# Altium integrated library Linear Technology Power Management LDO Linear Regulators.IntLib: 2339 symbols (part 128 of 131)
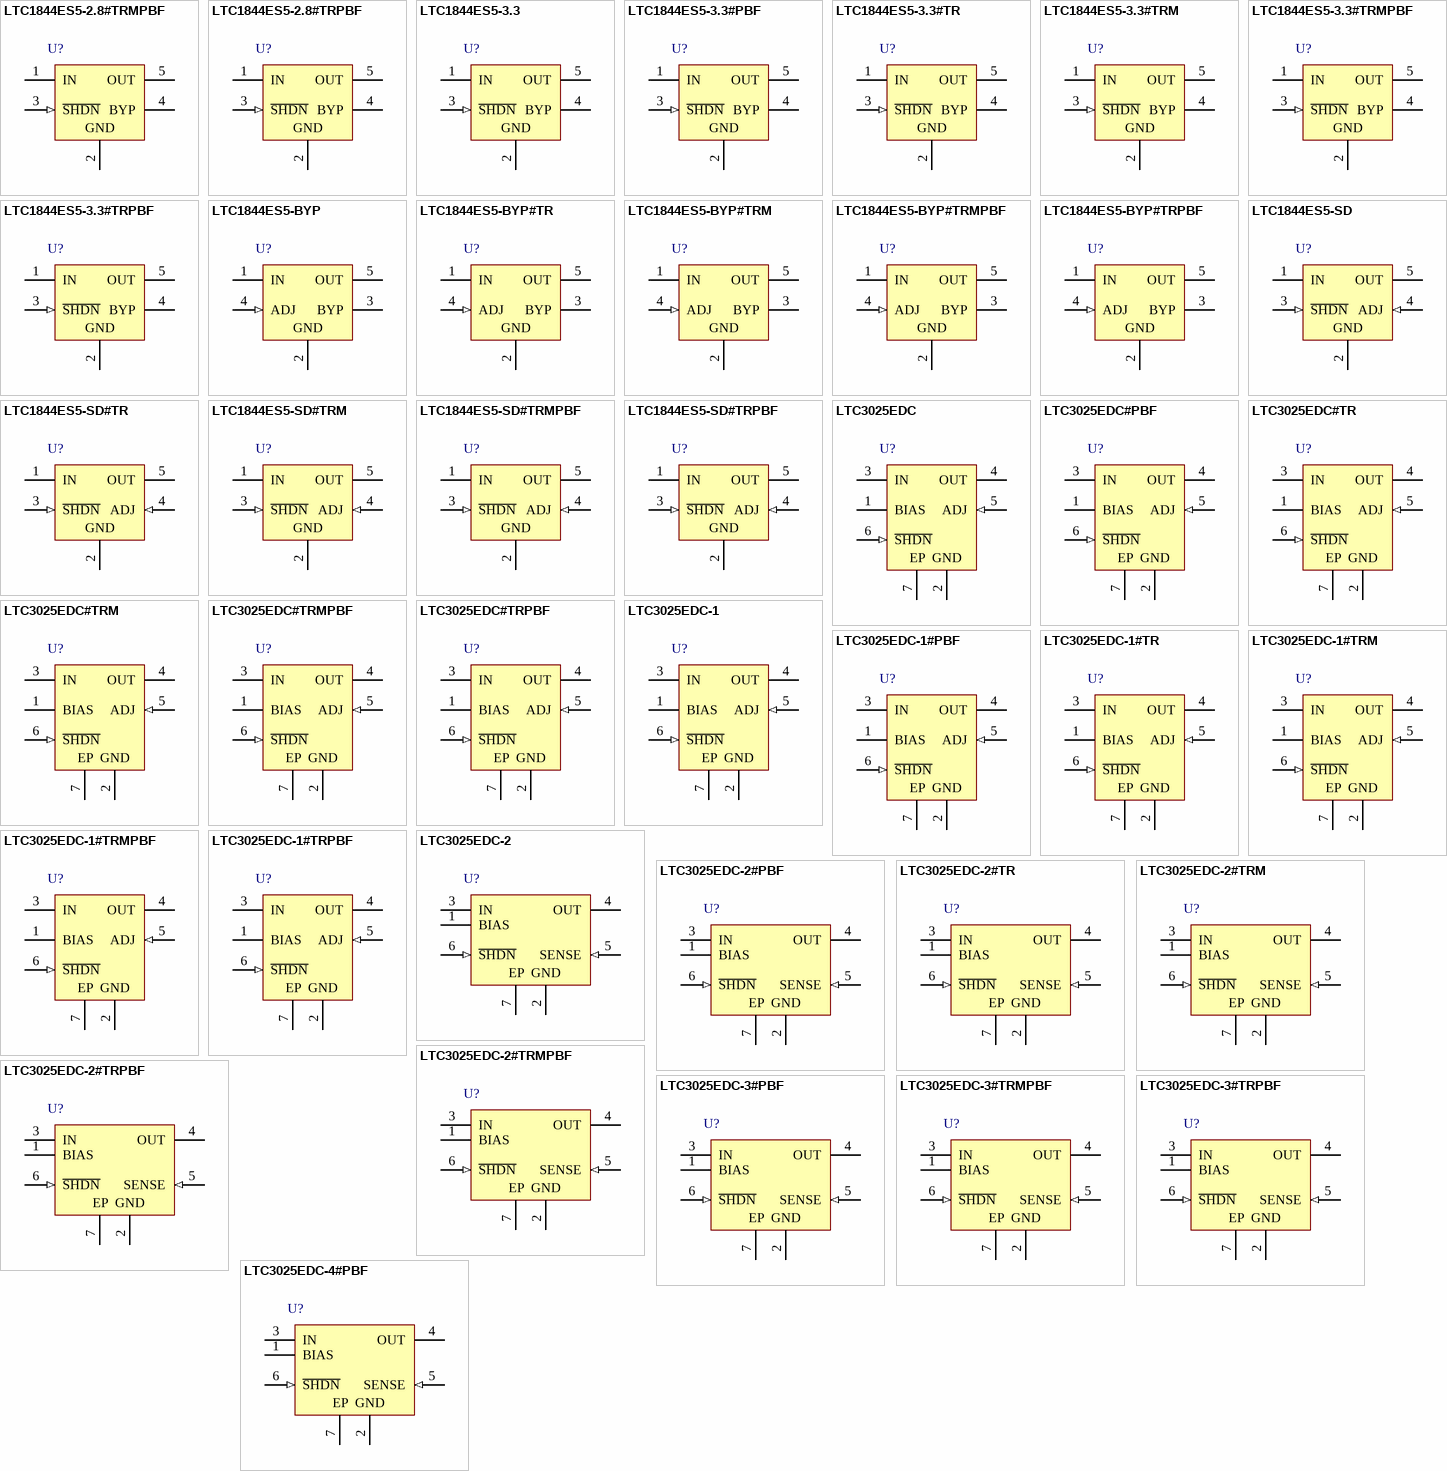
[diagram p196: symbols LTC1844ES5-2.8#TRMPBF to LTC3025EDC-4#PBF]

## LTC3025EDC-3#PBF
designator U?
500 mA Micropower VLDO Linear Regulator, 1.7 to 5.5 V Vin, 1.5 V Vout, 6-pin SON (DC6-6), -40 to 125 degC, Pb-Free; Manufacturer: Linear Technology; PartNumber: LTC3025EDC-3#PBF; Discrete Pass Element: no; Dropout Voltage(V): 0.085; Iout(mA): 500; Isupply(mA): 0.05; Noise(uV): 80; Number of Outputs: 1; Output Voltage: 1.5 V; Vin Max(V): 5.5; Vin Min(V): 1.7; DatasheetVersion: Rev. F; PackageVersion: Rev. B, 06/2010; PackageReference: DC6-6; PackageDescription: 6-Pin Plastic DFN, Body 2 x 2 mm, Pitch 0.5 mm; Supplier 1: Newark; Supplier Part Number 1: 78T3133; RoHS: TRUE; Shutdown Current(uA): 1; Mounting Technology: Surface Mount; Code_JEDEC: MO-229; ComponentLink1Description: Manufacturer URL; ComponentLink1URL: http://www.linear.com/; ComponentLink2Description: Datasheet; ComponentLink2URL: http://cds.linear.com/docs/en/datasheet/30251234ff.pdf; ComponentLink3Description: Package Specification; ComponentLink3URL: http://cds.linear.com/docs/en/packaging/DFN_6_05-08-1703.pdf
footprint LT-DC6-6_V (SON, 6-Leads, Body 2x2mm, Pitch 0.5mm, Thermal Pad 1.42x0.61mm)
pins: 1 BIAS (power) "BIAS Input Voltage. BIAS provides internal power for LTC3025-X circuitry. The BIAS pin should be locally bypassed to ground if the LTC3025-X is more than a few inches away from another source of bulk capacitance. In general, (See Datasheet)", 2 GND (power) "Ground. Connect to a ground plane.", 3 IN (power) "Input Supply Voltage. The output load current is supplied directly from IN. The IN pin should be locally bypassed to ground if the LTC3025-X is more than a few inches away from another source of bulk capacitance. In general, (See Datasheet)", 4 OUT (power) "Regulated Output Voltage. The OUT pin supplies power to the load. A minimum ceramic output capacitor of at least 1uF is required to ensure stability. Larger output capacitors may be required for applications with large (See Datasheet)", 5 SENSE (in) "Output Sense. The sense is the input to the resistor divider driving the error amplifier. Optimum regulation will be obtained at the point where SENSE is connected to OUT. The SENSE pin bias current is 10uA at the nominal (See Datasheet)", 6 ~{SHDN} (in) "Shutdown Input, Active Low. This pin is used to put the LTC3025-X into shutdown. The S\H\D\N\ pin current is typically less than 10nA. The S\H\D\N\ pin cannot be left floating and must be tied to a valid logic level (such as (See Datasheet)", 7 EP (power) "Ground and Heat Sink. Must be soldered to PCB ground plane or large pad for optimal thermal performance."

## LTC3025EDC-3#TRMPBF
designator U?
500 mA Micropower VLDO Linear Regulator, 1.7 to 5.5 V Vin, 1.5 V Vout, 6-pin SON (DC6-6), -40 to 125 degC, Pb-Free, Mini Tape and Reel; Manufacturer: Linear Technology; PartNumber: LTC3025EDC-3#TRMPBF; Discrete Pass Element: no; Dropout Voltage(V): 0.085; Iout(mA): 500; Isupply(mA): 0.05; Noise(uV): 80; Number of Outputs: 1; Output Voltage: 1.5 V; Vin Max(V): 5.5; Vin Min(V): 1.7; DatasheetVersion: Rev. F; PackageVersion: Rev. B, 06/2010; PackageReference: DC6-6; PackageDescription: 6-Pin Plastic DFN, Body 2 x 2 mm, Pitch 0.5 mm; Supplier 1: Digi-Key; Supplier Part Number 1: LTC3025EDC-3#TRMPBF-ND; Supplier 2: Newark; Supplier Part Number 2: 19P9323; Packing: Mini Tape and Reel; RoHS: TRUE; Shutdown Current(uA): 1; Mounting Technology: Surface Mount; Code_JEDEC: MO-229; ComponentLink1Description: Manufacturer URL; ComponentLink1URL: http://www.linear.com/; ComponentLink2Description: Datasheet; ComponentLink2URL: http://cds.linear.com/docs/en/datasheet/30251234ff.pdf; ComponentLink3Description: Package Specification; ComponentLink3URL: http://cds.linear.com/docs/en/packaging/DFN_6_05-08-1703.pdf
footprint LT-DC6-6_V (SON, 6-Leads, Body 2x2mm, Pitch 0.5mm, Thermal Pad 1.42x0.61mm)
pins: 1 BIAS (power) "BIAS Input Voltage. BIAS provides internal power for LTC3025-X circuitry. The BIAS pin should be locally bypassed to ground if the LTC3025-X is more than a few inches away from another source of bulk capacitance. In general, (See Datasheet)", 2 GND (power) "Ground. Connect to a ground plane.", 3 IN (power) "Input Supply Voltage. The output load current is supplied directly from IN. The IN pin should be locally bypassed to ground if the LTC3025-X is more than a few inches away from another source of bulk capacitance. In general, (See Datasheet)", 4 OUT (power) "Regulated Output Voltage. The OUT pin supplies power to the load. A minimum ceramic output capacitor of at least 1uF is required to ensure stability. Larger output capacitors may be required for applications with large (See Datasheet)", 5 SENSE (in) "Output Sense. The sense is the input to the resistor divider driving the error amplifier. Optimum regulation will be obtained at the point where SENSE is connected to OUT. The SENSE pin bias current is 10uA at the nominal (See Datasheet)", 6 ~{SHDN} (in) "Shutdown Input, Active Low. This pin is used to put the LTC3025-X into shutdown. The S\H\D\N\ pin current is typically less than 10nA. The S\H\D\N\ pin cannot be left floating and must be tied to a valid logic level (such as (See Datasheet)", 7 EP (power) "Ground and Heat Sink. Must be soldered to PCB ground plane or large pad for optimal thermal performance."

## LTC3025EDC-3#TRPBF
designator U?
500 mA Micropower VLDO Linear Regulator, 1.7 to 5.5 V Vin, 1.5 V Vout, 6-pin SON (DC6-6), -40 to 125 degC, Pb-Free, Tape and Reel; Manufacturer: Linear Technology; PartNumber: LTC3025EDC-3#TRPBF; Discrete Pass Element: no; Dropout Voltage(V): 0.085; Iout(mA): 500; Isupply(mA): 0.05; Noise(uV): 80; Number of Outputs: 1; Output Voltage: 1.5 V; Vin Max(V): 5.5; Vin Min(V): 1.7; DatasheetVersion: Rev. F; PackageVersion: Rev. B, 06/2010; PackageReference: DC6-6; PackageDescription: 6-Pin Plastic DFN, Body 2 x 2 mm, Pitch 0.5 mm; Supplier 1: Digi-Key; Supplier Part Number 1: LTC3025EDC-3#TRPBF-ND; Packing: Tape and Reel; RoHS: TRUE; Shutdown Current(uA): 1; Mounting Technology: Surface Mount; Code_JEDEC: MO-229; ComponentLink1Description: Manufacturer URL; ComponentLink1URL: http://www.linear.com/; ComponentLink2Description: Datasheet; ComponentLink2URL: http://cds.linear.com/docs/en/datasheet/30251234ff.pdf; ComponentLink3Description: Package Specification; ComponentLink3URL: http://cds.linear.com/docs/en/packaging/DFN_6_05-08-1703.pdf
footprint LT-DC6-6_V (SON, 6-Leads, Body 2x2mm, Pitch 0.5mm, Thermal Pad 1.42x0.61mm)
pins: 1 BIAS (power) "BIAS Input Voltage. BIAS provides internal power for LTC3025-X circuitry. The BIAS pin should be locally bypassed to ground if the LTC3025-X is more than a few inches away from another source of bulk capacitance. In general, (See Datasheet)", 2 GND (power) "Ground. Connect to a ground plane.", 3 IN (power) "Input Supply Voltage. The output load current is supplied directly from IN. The IN pin should be locally bypassed to ground if the LTC3025-X is more than a few inches away from another source of bulk capacitance. In general, (See Datasheet)", 4 OUT (power) "Regulated Output Voltage. The OUT pin supplies power to the load. A minimum ceramic output capacitor of at least 1uF is required to ensure stability. Larger output capacitors may be required for applications with large (See Datasheet)", 5 SENSE (in) "Output Sense. The sense is the input to the resistor divider driving the error amplifier. Optimum regulation will be obtained at the point where SENSE is connected to OUT. The SENSE pin bias current is 10uA at the nominal (See Datasheet)", 6 ~{SHDN} (in) "Shutdown Input, Active Low. This pin is used to put the LTC3025-X into shutdown. The S\H\D\N\ pin current is typically less than 10nA. The S\H\D\N\ pin cannot be left floating and must be tied to a valid logic level (such as (See Datasheet)", 7 EP (power) "Ground and Heat Sink. Must be soldered to PCB ground plane or large pad for optimal thermal performance."

## LTC3025EDC-4#PBF
designator U?
500 mA Micropower VLDO Linear Regulator, 2 to 5.5 V Vin, 1.8 V Vout, 6-pin SON (DC6-6), -40 to 125 degC, Pb-Free; Manufacturer: Linear Technology; PartNumber: LTC3025EDC-4#PBF; Discrete Pass Element: no; Dropout Voltage(V): 0.085; Iout(mA): 500; Isupply(mA): 0.05; Noise(uV): 80; Number of Outputs: 1; Output Voltage: 1.8 V; Vin Max(V): 5.5; Vin Min(V): 2; DatasheetVersion: Rev. F; PackageVersion: Rev. B, 06/2010; PackageReference: DC6-6; PackageDescription: 6-Pin Plastic DFN, Body 2 x 2 mm, Pitch 0.5 mm; Supplier 1: Newark; Supplier Part Number 1: 78T3134; RoHS: TRUE; Shutdown Current(uA): 1; Mounting Technology: Surface Mount; Code_JEDEC: MO-229; ComponentLink1Description: Manufacturer URL; ComponentLink1URL: http://www.linear.com/; ComponentLink2Description: Datasheet; ComponentLink2URL: http://cds.linear.com/docs/en/datasheet/30251234ff.pdf; ComponentLink3Description: Package Specification; ComponentLink3URL: http://cds.linear.com/docs/en/packaging/DFN_6_05-08-1703.pdf
footprint LT-DC6-6_V (SON, 6-Leads, Body 2x2mm, Pitch 0.5mm, Thermal Pad 1.42x0.61mm)
pins: 1 BIAS (power) "BIAS Input Voltage. BIAS provides internal power for LTC3025-X circuitry. The BIAS pin should be locally bypassed to ground if the LTC3025-X is more than a few inches away from another source of bulk capacitance. In general, (See Datasheet)", 2 GND (power) "Ground. Connect to a ground plane.", 3 IN (power) "Input Supply Voltage. The output load current is supplied directly from IN. The IN pin should be locally bypassed to ground if the LTC3025-X is more than a few inches away from another source of bulk capacitance. In general, (See Datasheet)", 4 OUT (power) "Regulated Output Voltage. The OUT pin supplies power to the load. A minimum ceramic output capacitor of at least 1uF is required to ensure stability. Larger output capacitors may be required for applications with large (See Datasheet)", 5 SENSE (in) "Output Sense. The sense is the input to the resistor divider driving the error amplifier. Optimum regulation will be obtained at the point where SENSE is connected to OUT. The SENSE pin bias current is 10uA at the nominal (See Datasheet)", 6 ~{SHDN} (in) "Shutdown Input, Active Low. This pin is used to put the LTC3025-X into shutdown. The S\H\D\N\ pin current is typically less than 10nA. The S\H\D\N\ pin cannot be left floating and must be tied to a valid logic level (such as (See Datasheet)", 7 EP (power) "Ground and Heat Sink. Must be soldered to PCB ground plane or large pad for optimal thermal performance."

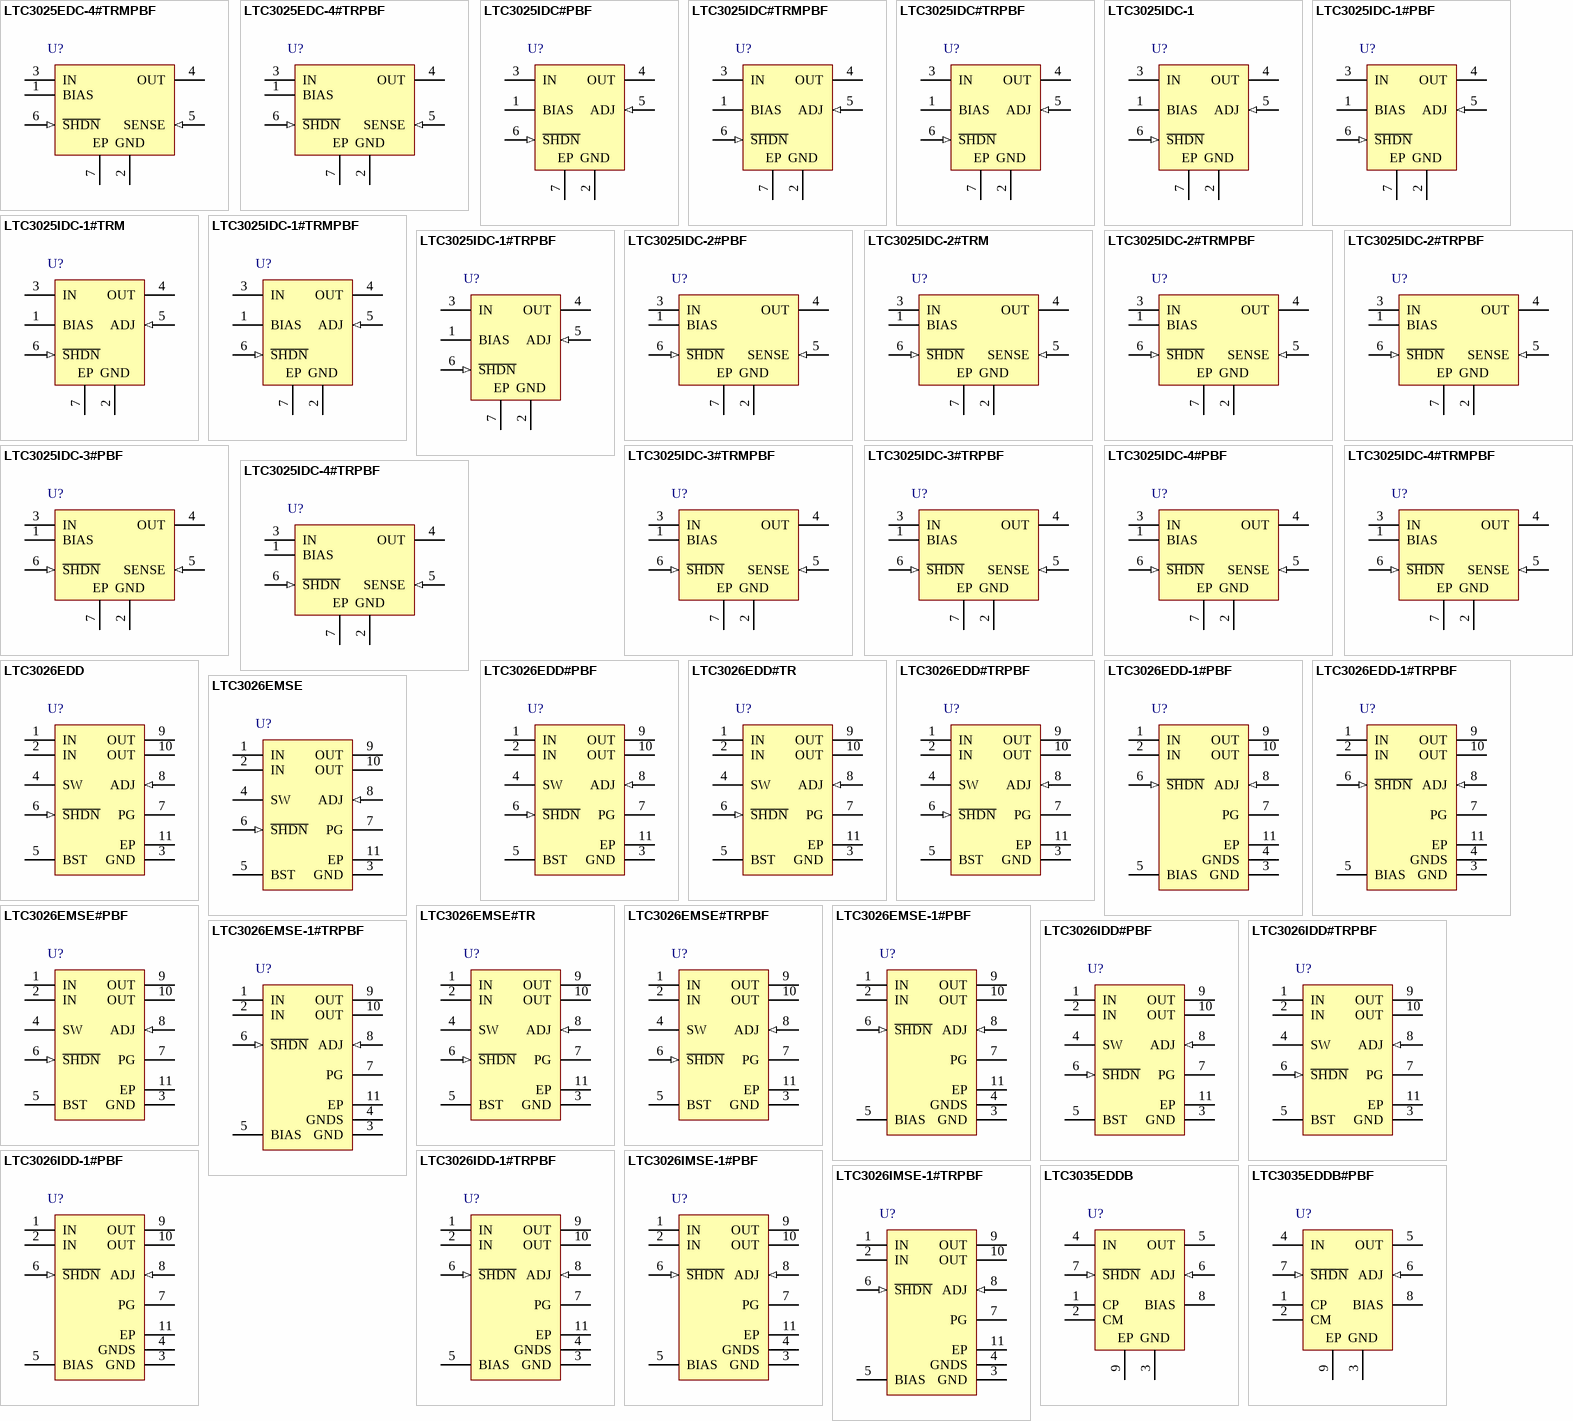
[diagram p68: symbols LTC3025EDC-4#TRMPBF to LTC3035EDDB#PBF]

## LTC3025EDC-4#TRMPBF
designator U?
500 mA Micropower VLDO Linear Regulator, 2 to 5.5 V Vin, 1.8 V Vout, 6-pin SON (DC6-6), -40 to 125 degC, Pb-Free, Mini Tape and Reel; Manufacturer: Linear Technology; PartNumber: LTC3025EDC-4#TRMPBF; Discrete Pass Element: no; Dropout Voltage(V): 0.085; Iout(mA): 500; Isupply(mA): 0.05; Noise(uV): 80; Number of Outputs: 1; Output Voltage: 1.8 V; Vin Max(V): 5.5; Vin Min(V): 2; DatasheetVersion: Rev. F; PackageVersion: Rev. B, 06/2010; PackageReference: DC6-6; PackageDescription: 6-Pin Plastic DFN, Body 2 x 2 mm, Pitch 0.5 mm; Supplier 1: Digi-Key; Supplier Part Number 1: LTC3025EDC-4#TRMPBF-ND; Supplier 2: Newark; Supplier Part Number 2: 19P9325; Packing: Mini Tape and Reel; RoHS: TRUE; Shutdown Current(uA): 1; Mounting Technology: Surface Mount; Code_JEDEC: MO-229; ComponentLink1Description: Manufacturer URL; ComponentLink1URL: http://www.linear.com/; ComponentLink2Description: Datasheet; ComponentLink2URL: http://cds.linear.com/docs/en/datasheet/30251234ff.pdf; ComponentLink3Description: Package Specification; ComponentLink3URL: http://cds.linear.com/docs/en/packaging/DFN_6_05-08-1703.pdf
footprint LT-DC6-6_V (SON, 6-Leads, Body 2x2mm, Pitch 0.5mm, Thermal Pad 1.42x0.61mm)
pins: 1 BIAS (power) "BIAS Input Voltage. BIAS provides internal power for LTC3025-X circuitry. The BIAS pin should be locally bypassed to ground if the LTC3025-X is more than a few inches away from another source of bulk capacitance. In general, (See Datasheet)", 2 GND (power) "Ground. Connect to a ground plane.", 3 IN (power) "Input Supply Voltage. The output load current is supplied directly from IN. The IN pin should be locally bypassed to ground if the LTC3025-X is more than a few inches away from another source of bulk capacitance. In general, (See Datasheet)", 4 OUT (power) "Regulated Output Voltage. The OUT pin supplies power to the load. A minimum ceramic output capacitor of at least 1uF is required to ensure stability. Larger output capacitors may be required for applications with large (See Datasheet)", 5 SENSE (in) "Output Sense. The sense is the input to the resistor divider driving the error amplifier. Optimum regulation will be obtained at the point where SENSE is connected to OUT. The SENSE pin bias current is 10uA at the nominal (See Datasheet)", 6 ~{SHDN} (in) "Shutdown Input, Active Low. This pin is used to put the LTC3025-X into shutdown. The S\H\D\N\ pin current is typically less than 10nA. The S\H\D\N\ pin cannot be left floating and must be tied to a valid logic level (such as (See Datasheet)", 7 EP (power) "Ground and Heat Sink. Must be soldered to PCB ground plane or large pad for optimal thermal performance."

## LTC3025EDC-4#TRPBF
designator U?
500 mA Micropower VLDO Linear Regulator, 2 to 5.5 V Vin, 1.8 V Vout, 6-pin SON (DC6-6), -40 to 125 degC, Pb-Free, Tape and Reel; Manufacturer: Linear Technology; PartNumber: LTC3025EDC-4#TRPBF; Discrete Pass Element: no; Dropout Voltage(V): 0.085; Iout(mA): 500; Isupply(mA): 0.05; Noise(uV): 80; Number of Outputs: 1; Output Voltage: 1.8 V; Vin Max(V): 5.5; Vin Min(V): 2; DatasheetVersion: Rev. F; PackageVersion: Rev. B, 06/2010; PackageReference: DC6-6; PackageDescription: 6-Pin Plastic DFN, Body 2 x 2 mm, Pitch 0.5 mm; Supplier 1: Digi-Key; Supplier Part Number 1: LTC3025EDC-4#TRPBF-ND; Supplier 2: Newark; Supplier Part Number 2: 19P9326; Packing: Tape and Reel; RoHS: TRUE; Shutdown Current(uA): 1; Mounting Technology: Surface Mount; Code_JEDEC: MO-229; ComponentLink1Description: Manufacturer URL; ComponentLink1URL: http://www.linear.com/; ComponentLink2Description: Datasheet; ComponentLink2URL: http://cds.linear.com/docs/en/datasheet/30251234ff.pdf; ComponentLink3Description: Package Specification; ComponentLink3URL: http://cds.linear.com/docs/en/packaging/DFN_6_05-08-1703.pdf
footprint LT-DC6-6_V (SON, 6-Leads, Body 2x2mm, Pitch 0.5mm, Thermal Pad 1.42x0.61mm)
pins: 1 BIAS (power) "BIAS Input Voltage. BIAS provides internal power for LTC3025-X circuitry. The BIAS pin should be locally bypassed to ground if the LTC3025-X is more than a few inches away from another source of bulk capacitance. In general, (See Datasheet)", 2 GND (power) "Ground. Connect to a ground plane.", 3 IN (power) "Input Supply Voltage. The output load current is supplied directly from IN. The IN pin should be locally bypassed to ground if the LTC3025-X is more than a few inches away from another source of bulk capacitance. In general, (See Datasheet)", 4 OUT (power) "Regulated Output Voltage. The OUT pin supplies power to the load. A minimum ceramic output capacitor of at least 1uF is required to ensure stability. Larger output capacitors may be required for applications with large (See Datasheet)", 5 SENSE (in) "Output Sense. The sense is the input to the resistor divider driving the error amplifier. Optimum regulation will be obtained at the point where SENSE is connected to OUT. The SENSE pin bias current is 10uA at the nominal (See Datasheet)", 6 ~{SHDN} (in) "Shutdown Input, Active Low. This pin is used to put the LTC3025-X into shutdown. The S\H\D\N\ pin current is typically less than 10nA. The S\H\D\N\ pin cannot be left floating and must be tied to a valid logic level (such as (See Datasheet)", 7 EP (power) "Ground and Heat Sink. Must be soldered to PCB ground plane or large pad for optimal thermal performance."

## LTC3025IDC#PBF
designator U?
300 mA Micropower VLDO Linear Regulator, 0.9 to 5.5 V Vin, Adjustable Vout, 6-pin SON (DC6-6), -40 to 125 degC, Pb-Free; Manufacturer: Linear Technology; PartNumber: LTC3025IDC#PBF; Discrete Pass Element: no; Dropout Voltage(V): 0.045; Iout(mA): 300; Isupply(mA): 0.054; Noise(uV): 80; Number of Outputs: 1; Output Voltage: Adj; Vin Max(V): 5.5; Vin Min(V): 0.9; Vout Max(V): 3.6; Vout Min(V): 0.4; DatasheetVersion: Rev. D; PackageVersion: Rev. B, 06/2010; PackageReference: DC6-6; PackageDescription: 6-Pin Plastic DFN, Body 2 x 2 mm, Pitch 0.5 mm; Supplier 1: Farnell; Supplier Part Number 1: 2295288; Supplier 2: Newark; Supplier Part Number 2: 78T3140; RoHS: TRUE; Shutdown Current(uA): 1; Mounting Technology: Surface Mount; Code_JEDEC: MO-229; ComponentLink1Description: Manufacturer URL; ComponentLink1URL: http://www.linear.com/; ComponentLink2Description: Datasheet; ComponentLink2URL: http://cds.linear.com/docs/en/datasheet/3025fd.pdf; ComponentLink3Description: Package Specification; ComponentLink3URL: http://cds.linear.com/docs/en/packaging/DFN_6_05-08-1703.pdf
footprint LT-DC6-6_V (SON, 6-Leads, Body 2x2mm, Pitch 0.5mm, Thermal Pad 1.42x0.61mm)
pins: 1 BIAS (power) "BIAS Input Voltage. BIAS provides internal power for LTC3025 circuitry. The BIAS pin should be locally bypassed to ground if the LTC3025 is more than a few inches away from another source of bulk capacitance. In general, the (See Datasheet)", 2 GND (power) "Ground. Connect to a ground plane.", 3 IN (power) "Input Supply Voltage. The output load current is supplied directly from IN. The IN pin should be locally bypassed to ground if the LTC3025 is more than a few inches away from another source of bulk capacitance. In general, (See Datasheet)", 4 OUT (power) "Regulated Output Voltage. The OUT pin supplies power to the load. A minimum ceramic output capacitor of at least 1uF is required to ensure stability. Larger output capacitors may be required for applications with large (See Datasheet)", 5 ADJ (in) "Adjust Input. This is the input to the error amplifier. The ADJ pin reference voltage is 0.4V referenced to ground. The output voltage range is 0.4V to 3.6V and is typically set by connecting ADJ to a resistor divider from (See Datasheet)", 6 ~{SHDN} (in) "Shutdown Input, Active Low. This pin is used to put the LTC3025 into shutdown. The S\H\D\N\ pin current is typically less than 10nA. The S\H\D\N\ pin cannot be left floating and must be tied to a valid logic level (such as (See Datasheet)", 7 EP (power) "Ground and Heat Sink. Must be soldered to PCB ground plane or large pad for optimal thermal performance."

## LTC3025IDC#TRMPBF
designator U?
300 mA Micropower VLDO Linear Regulator, 0.9 to 5.5 V Vin, Adjustable Vout, 6-pin SON (DC6-6), -40 to 125 degC, Pb-Free, Mini Tape and Reel; Manufacturer: Linear Technology; PartNumber: LTC3025IDC#TRMPBF; Discrete Pass Element: no; Dropout Voltage(V): 0.045; Iout(mA): 300; Isupply(mA): 0.054; Noise(uV): 80; Number of Outputs: 1; Output Voltage: Adj; Vin Max(V): 5.5; Vin Min(V): 0.9; Vout Max(V): 3.6; Vout Min(V): 0.4; DatasheetVersion: Rev. D; PackageVersion: Rev. B, 06/2010; PackageReference: DC6-6; PackageDescription: 6-Pin Plastic DFN, Body 2 x 2 mm, Pitch 0.5 mm; Supplier 1: Digi-Key; Supplier Part Number 1: LTC3025IDC#TRMPBF-ND; Supplier 2: Newark; Supplier Part Number 2: 19P9335; Packing: Mini Tape and Reel; RoHS: TRUE; Shutdown Current(uA): 1; Mounting Technology: Surface Mount; Code_JEDEC: MO-229; ComponentLink1Description: Manufacturer URL; ComponentLink1URL: http://www.linear.com/; ComponentLink2Description: Datasheet; ComponentLink2URL: http://cds.linear.com/docs/en/datasheet/3025fd.pdf; ComponentLink3Description: Package Specification; ComponentLink3URL: http://cds.linear.com/docs/en/packaging/DFN_6_05-08-1703.pdf
footprint LT-DC6-6_V (SON, 6-Leads, Body 2x2mm, Pitch 0.5mm, Thermal Pad 1.42x0.61mm)
pins: 1 BIAS (power) "BIAS Input Voltage. BIAS provides internal power for LTC3025 circuitry. The BIAS pin should be locally bypassed to ground if the LTC3025 is more than a few inches away from another source of bulk capacitance. In general, the (See Datasheet)", 2 GND (power) "Ground. Connect to a ground plane.", 3 IN (power) "Input Supply Voltage. The output load current is supplied directly from IN. The IN pin should be locally bypassed to ground if the LTC3025 is more than a few inches away from another source of bulk capacitance. In general, (See Datasheet)", 4 OUT (power) "Regulated Output Voltage. The OUT pin supplies power to the load. A minimum ceramic output capacitor of at least 1uF is required to ensure stability. Larger output capacitors may be required for applications with large (See Datasheet)", 5 ADJ (in) "Adjust Input. This is the input to the error amplifier. The ADJ pin reference voltage is 0.4V referenced to ground. The output voltage range is 0.4V to 3.6V and is typically set by connecting ADJ to a resistor divider from (See Datasheet)", 6 ~{SHDN} (in) "Shutdown Input, Active Low. This pin is used to put the LTC3025 into shutdown. The S\H\D\N\ pin current is typically less than 10nA. The S\H\D\N\ pin cannot be left floating and must be tied to a valid logic level (such as (See Datasheet)", 7 EP (power) "Ground and Heat Sink. Must be soldered to PCB ground plane or large pad for optimal thermal performance."

## LTC3025IDC#TRPBF
designator U?
300 mA Micropower VLDO Linear Regulator, 0.9 to 5.5 V Vin, Adjustable Vout, 6-pin SON (DC6-6), -40 to 125 degC, Pb-Free, Tape and Reel; Manufacturer: Linear Technology; PartNumber: LTC3025IDC#TRPBF; Discrete Pass Element: no; Dropout Voltage(V): 0.045; Iout(mA): 300; Isupply(mA): 0.054; Noise(uV): 80; Number of Outputs: 1; Output Voltage: Adj; Vin Max(V): 5.5; Vin Min(V): 0.9; Vout Max(V): 3.6; Vout Min(V): 0.4; DatasheetVersion: Rev. D; PackageVersion: Rev. B, 06/2010; PackageReference: DC6-6; PackageDescription: 6-Pin Plastic DFN, Body 2 x 2 mm, Pitch 0.5 mm; Supplier 1: Digi-Key; Supplier Part Number 1: LTC3025IDC#TRPBF-ND; Supplier 2: Newark; Supplier Part Number 2: 19P9336; Packing: Tape and Reel; RoHS: TRUE; Shutdown Current(uA): 1; Mounting Technology: Surface Mount; Code_JEDEC: MO-229; ComponentLink1Description: Manufacturer URL; ComponentLink1URL: http://www.linear.com/; ComponentLink2Description: Datasheet; ComponentLink2URL: http://cds.linear.com/docs/en/datasheet/3025fd.pdf; ComponentLink3Description: Package Specification; ComponentLink3URL: http://cds.linear.com/docs/en/packaging/DFN_6_05-08-1703.pdf
footprint LT-DC6-6_V (SON, 6-Leads, Body 2x2mm, Pitch 0.5mm, Thermal Pad 1.42x0.61mm)
pins: 1 BIAS (power) "BIAS Input Voltage. BIAS provides internal power for LTC3025 circuitry. The BIAS pin should be locally bypassed to ground if the LTC3025 is more than a few inches away from another source of bulk capacitance. In general, the (See Datasheet)", 2 GND (power) "Ground. Connect to a ground plane.", 3 IN (power) "Input Supply Voltage. The output load current is supplied directly from IN. The IN pin should be locally bypassed to ground if the LTC3025 is more than a few inches away from another source of bulk capacitance. In general, (See Datasheet)", 4 OUT (power) "Regulated Output Voltage. The OUT pin supplies power to the load. A minimum ceramic output capacitor of at least 1uF is required to ensure stability. Larger output capacitors may be required for applications with large (See Datasheet)", 5 ADJ (in) "Adjust Input. This is the input to the error amplifier. The ADJ pin reference voltage is 0.4V referenced to ground. The output voltage range is 0.4V to 3.6V and is typically set by connecting ADJ to a resistor divider from (See Datasheet)", 6 ~{SHDN} (in) "Shutdown Input, Active Low. This pin is used to put the LTC3025 into shutdown. The S\H\D\N\ pin current is typically less than 10nA. The S\H\D\N\ pin cannot be left floating and must be tied to a valid logic level (such as (See Datasheet)", 7 EP (power) "Ground and Heat Sink. Must be soldered to PCB ground plane or large pad for optimal thermal performance."

## LTC3025IDC-1
designator U?
500 mA Micropower VLDO Linear Regulator, 0.9 to 5.5 V Vin, Adjustable Vout, 6-pin SON (DC6-6), -40 to 125 degC; Manufacturer: Linear Technology; PartNumber: LTC3025IDC-1; Discrete Pass Element: no; Dropout Voltage(V): 0.085; Iout(mA): 500; Isupply(mA): 0.05; Noise(uV): 80; Number of Outputs: 1; Output Voltage: Adj; Vin Max(V): 5.5; Vin Min(V): 0.9; Vout Max(V): 3.6; Vout Min(V): 0.4; DatasheetVersion: Rev. F; PackageVersion: Rev. B, 06/2010; PackageReference: DC6-6; PackageDescription: 6-Pin Plastic DFN, Body 2 x 2 mm, Pitch 0.5 mm; RoHS: FALSE; Shutdown Current(uA): 1; Mounting Technology: Surface Mount; Code_JEDEC: MO-229; ComponentLink1Description: Manufacturer URL; ComponentLink1URL: http://www.linear.com/; ComponentLink2Description: Datasheet; ComponentLink2URL: http://cds.linear.com/docs/en/datasheet/30251234ff.pdf; ComponentLink3Description: Package Specification; ComponentLink3URL: http://cds.linear.com/docs/en/packaging/DFN_6_05-08-1703.pdf
footprint LT-DC6-6_V (SON, 6-Leads, Body 2x2mm, Pitch 0.5mm, Thermal Pad 1.42x0.61mm)
pins: 1 BIAS (power) "BIAS Input Voltage. BIAS provides internal power for LTC3025 circuitry. The BIAS pin should be locally bypassed to ground if the LTC3025 is more than a few inches away from another source of bulk capacitance. In general, the (See Datasheet)", 2 GND (power) "Ground. Connect to a ground plane.", 3 IN (power) "Input Supply Voltage. The output load current is supplied directly from IN. The IN pin should be locally bypassed to ground if the LTC3025 is more than a few inches away from another source of bulk capacitance. In general, (See Datasheet)", 4 OUT (power) "Regulated Output Voltage. The OUT pin supplies power to the load. A minimum ceramic output capacitor of at least 1uF is required to ensure stability. Larger output capacitors may be required for applications with large (See Datasheet)", 5 ADJ (in) "Adjust Input. This is the input to the error amplifier. The ADJ pin reference voltage is 0.4V referenced to ground. The output voltage range is 0.4V to 3.6V and is typically set by connecting ADJ to a resistor divider from (See Datasheet)", 6 ~{SHDN} (in) "Shutdown Input, Active Low. This pin is used to put the LTC3025 into shutdown. The S\H\D\N\ pin current is typically less than 10nA. The S\H\D\N\ pin cannot be left floating and must be tied to a valid logic level (such as (See Datasheet)", 7 EP (power) "Ground and Heat Sink. Must be soldered to PCB ground plane or large pad for optimal thermal performance."

## LTC3025IDC-1#PBF
designator U?
500 mA Micropower VLDO Linear Regulator, 0.9 to 5.5 V Vin, Adjustable Vout, 6-pin SON (DC6-6), -40 to 125 degC, Pb-Free; Manufacturer: Linear Technology; PartNumber: LTC3025IDC-1#PBF; Discrete Pass Element: no; Dropout Voltage(V): 0.085; Iout(mA): 500; Isupply(mA): 0.05; Noise(uV): 80; Number of Outputs: 1; Output Voltage: Adj; Vin Max(V): 5.5; Vin Min(V): 0.9; Vout Max(V): 3.6; Vout Min(V): 0.4; DatasheetVersion: Rev. F; PackageVersion: Rev. B, 06/2010; PackageReference: DC6-6; PackageDescription: 6-Pin Plastic DFN, Body 2 x 2 mm, Pitch 0.5 mm; Supplier 1: Newark; Supplier Part Number 1: 78T3136; RoHS: TRUE; Shutdown Current(uA): 1; Mounting Technology: Surface Mount; Code_JEDEC: MO-229; ComponentLink1Description: Manufacturer URL; ComponentLink1URL: http://www.linear.com/; ComponentLink2Description: Datasheet; ComponentLink2URL: http://cds.linear.com/docs/en/datasheet/30251234ff.pdf; ComponentLink3Description: Package Specification; ComponentLink3URL: http://cds.linear.com/docs/en/packaging/DFN_6_05-08-1703.pdf
footprint LT-DC6-6_V (SON, 6-Leads, Body 2x2mm, Pitch 0.5mm, Thermal Pad 1.42x0.61mm)
pins: 1 BIAS (power) "BIAS Input Voltage. BIAS provides internal power for LTC3025 circuitry. The BIAS pin should be locally bypassed to ground if the LTC3025 is more than a few inches away from another source of bulk capacitance. In general, the (See Datasheet)", 2 GND (power) "Ground. Connect to a ground plane.", 3 IN (power) "Input Supply Voltage. The output load current is supplied directly from IN. The IN pin should be locally bypassed to ground if the LTC3025 is more than a few inches away from another source of bulk capacitance. In general, (See Datasheet)", 4 OUT (power) "Regulated Output Voltage. The OUT pin supplies power to the load. A minimum ceramic output capacitor of at least 1uF is required to ensure stability. Larger output capacitors may be required for applications with large (See Datasheet)", 5 ADJ (in) "Adjust Input. This is the input to the error amplifier. The ADJ pin reference voltage is 0.4V referenced to ground. The output voltage range is 0.4V to 3.6V and is typically set by connecting ADJ to a resistor divider from (See Datasheet)", 6 ~{SHDN} (in) "Shutdown Input, Active Low. This pin is used to put the LTC3025 into shutdown. The S\H\D\N\ pin current is typically less than 10nA. The S\H\D\N\ pin cannot be left floating and must be tied to a valid logic level (such as (See Datasheet)", 7 EP (power) "Ground and Heat Sink. Must be soldered to PCB ground plane or large pad for optimal thermal performance."

## LTC3025IDC-1#TRM
designator U?
500 mA Micropower VLDO Linear Regulator, 0.9 to 5.5 V Vin, Adjustable Vout, 6-pin SON (DC6-6), -40 to 125 degC, Mini Tape and Reel; Manufacturer: Linear Technology; PartNumber: LTC3025IDC-1#TRM; Discrete Pass Element: no; Dropout Voltage(V): 0.085; Iout(mA): 500; Isupply(mA): 0.05; Noise(uV): 80; Number of Outputs: 1; Output Voltage: Adj; Vin Max(V): 5.5; Vin Min(V): 0.9; Vout Max(V): 3.6; Vout Min(V): 0.4; DatasheetVersion: Rev. F; PackageVersion: Rev. B, 06/2010; PackageReference: DC6-6; PackageDescription: 6-Pin Plastic DFN, Body 2 x 2 mm, Pitch 0.5 mm; Packing: Mini Tape and Reel; RoHS: FALSE; Shutdown Current(uA): 1; Mounting Technology: Surface Mount; Code_JEDEC: MO-229; ComponentLink1Description: Manufacturer URL; ComponentLink1URL: http://www.linear.com/; ComponentLink2Description: Datasheet; ComponentLink2URL: http://cds.linear.com/docs/en/datasheet/30251234ff.pdf; ComponentLink3Description: Package Specification; ComponentLink3URL: http://cds.linear.com/docs/en/packaging/DFN_6_05-08-1703.pdf
footprint LT-DC6-6_V (SON, 6-Leads, Body 2x2mm, Pitch 0.5mm, Thermal Pad 1.42x0.61mm)
pins: 1 BIAS (power) "BIAS Input Voltage. BIAS provides internal power for LTC3025 circuitry. The BIAS pin should be locally bypassed to ground if the LTC3025 is more than a few inches away from another source of bulk capacitance. In general, the (See Datasheet)", 2 GND (power) "Ground. Connect to a ground plane.", 3 IN (power) "Input Supply Voltage. The output load current is supplied directly from IN. The IN pin should be locally bypassed to ground if the LTC3025 is more than a few inches away from another source of bulk capacitance. In general, (See Datasheet)", 4 OUT (power) "Regulated Output Voltage. The OUT pin supplies power to the load. A minimum ceramic output capacitor of at least 1uF is required to ensure stability. Larger output capacitors may be required for applications with large (See Datasheet)", 5 ADJ (in) "Adjust Input. This is the input to the error amplifier. The ADJ pin reference voltage is 0.4V referenced to ground. The output voltage range is 0.4V to 3.6V and is typically set by connecting ADJ to a resistor divider from (See Datasheet)", 6 ~{SHDN} (in) "Shutdown Input, Active Low. This pin is used to put the LTC3025 into shutdown. The S\H\D\N\ pin current is typically less than 10nA. The S\H\D\N\ pin cannot be left floating and must be tied to a valid logic level (such as (See Datasheet)", 7 EP (power) "Ground and Heat Sink. Must be soldered to PCB ground plane or large pad for optimal thermal performance."

## LTC3025IDC-1#TRMPBF
designator U?
500 mA Micropower VLDO Linear Regulator, 0.9 to 5.5 V Vin, Adjustable Vout, 6-pin SON (DC6-6), -40 to 125 degC, Pb-Free, Mini Tape and Reel; Manufacturer: Linear Technology; PartNumber: LTC3025IDC-1#TRMPBF; Discrete Pass Element: no; Dropout Voltage(V): 0.085; Iout(mA): 500; Isupply(mA): 0.05; Noise(uV): 80; Number of Outputs: 1; Output Voltage: Adj; Vin Max(V): 5.5; Vin Min(V): 0.9; Vout Max(V): 3.6; Vout Min(V): 0.4; DatasheetVersion: Rev. F; PackageVersion: Rev. B, 06/2010; PackageReference: DC6-6; PackageDescription: 6-Pin Plastic DFN, Body 2 x 2 mm, Pitch 0.5 mm; Supplier 1: Digi-Key; Supplier Part Number 1: LTC3025IDC-1#TRMPBF-ND; Supplier 2: Newark; Supplier Part Number 2: 19P9327; Packing: Mini Tape and Reel; RoHS: TRUE; Shutdown Current(uA): 1; Mounting Technology: Surface Mount; Code_JEDEC: MO-229; ComponentLink1Description: Manufacturer URL; ComponentLink1URL: http://www.linear.com/; ComponentLink2Description: Datasheet; ComponentLink2URL: http://cds.linear.com/docs/en/datasheet/30251234ff.pdf; ComponentLink3Description: Package Specification; ComponentLink3URL: http://cds.linear.com/docs/en/packaging/DFN_6_05-08-1703.pdf
footprint LT-DC6-6_V (SON, 6-Leads, Body 2x2mm, Pitch 0.5mm, Thermal Pad 1.42x0.61mm)
pins: 1 BIAS (power) "BIAS Input Voltage. BIAS provides internal power for LTC3025 circuitry. The BIAS pin should be locally bypassed to ground if the LTC3025 is more than a few inches away from another source of bulk capacitance. In general, the (See Datasheet)", 2 GND (power) "Ground. Connect to a ground plane.", 3 IN (power) "Input Supply Voltage. The output load current is supplied directly from IN. The IN pin should be locally bypassed to ground if the LTC3025 is more than a few inches away from another source of bulk capacitance. In general, (See Datasheet)", 4 OUT (power) "Regulated Output Voltage. The OUT pin supplies power to the load. A minimum ceramic output capacitor of at least 1uF is required to ensure stability. Larger output capacitors may be required for applications with large (See Datasheet)", 5 ADJ (in) "Adjust Input. This is the input to the error amplifier. The ADJ pin reference voltage is 0.4V referenced to ground. The output voltage range is 0.4V to 3.6V and is typically set by connecting ADJ to a resistor divider from (See Datasheet)", 6 ~{SHDN} (in) "Shutdown Input, Active Low. This pin is used to put the LTC3025 into shutdown. The S\H\D\N\ pin current is typically less than 10nA. The S\H\D\N\ pin cannot be left floating and must be tied to a valid logic level (such as (See Datasheet)", 7 EP (power) "Ground and Heat Sink. Must be soldered to PCB ground plane or large pad for optimal thermal performance."

## LTC3025IDC-1#TRPBF
designator U?
500 mA Micropower VLDO Linear Regulator, 0.9 to 5.5 V Vin, Adjustable Vout, 6-pin SON (DC6-6), -40 to 125 degC, Pb-Free, Tape and Reel; Manufacturer: Linear Technology; PartNumber: LTC3025IDC-1#TRPBF; Discrete Pass Element: no; Dropout Voltage(V): 0.085; Iout(mA): 500; Isupply(mA): 0.05; Noise(uV): 80; Number of Outputs: 1; Output Voltage: Adj; Vin Max(V): 5.5; Vin Min(V): 0.9; Vout Max(V): 3.6; Vout Min(V): 0.4; DatasheetVersion: Rev. F; PackageVersion: Rev. B, 06/2010; PackageReference: DC6-6; PackageDescription: 6-Pin Plastic DFN, Body 2 x 2 mm, Pitch 0.5 mm; Supplier 1: Digi-Key; Supplier Part Number 1: LTC3025IDC-1#TRPBF-ND; Supplier 2: Newark; Supplier Part Number 2: 19P9328; Packing: Tape and Reel; RoHS: TRUE; Shutdown Current(uA): 1; Mounting Technology: Surface Mount; Code_JEDEC: MO-229; ComponentLink1Description: Manufacturer URL; ComponentLink1URL: http://www.linear.com/; ComponentLink2Description: Datasheet; ComponentLink2URL: http://cds.linear.com/docs/en/datasheet/30251234ff.pdf; ComponentLink3Description: Package Specification; ComponentLink3URL: http://cds.linear.com/docs/en/packaging/DFN_6_05-08-1703.pdf
footprint LT-DC6-6_V (SON, 6-Leads, Body 2x2mm, Pitch 0.5mm, Thermal Pad 1.42x0.61mm)
pins: 1 BIAS (power) "BIAS Input Voltage. BIAS provides internal power for LTC3025 circuitry. The BIAS pin should be locally bypassed to ground if the LTC3025 is more than a few inches away from another source of bulk capacitance. In general, the (See Datasheet)", 2 GND (power) "Ground. Connect to a ground plane.", 3 IN (power) "Input Supply Voltage. The output load current is supplied directly from IN. The IN pin should be locally bypassed to ground if the LTC3025 is more than a few inches away from another source of bulk capacitance. In general, (See Datasheet)", 4 OUT (power) "Regulated Output Voltage. The OUT pin supplies power to the load. A minimum ceramic output capacitor of at least 1uF is required to ensure stability. Larger output capacitors may be required for applications with large (See Datasheet)", 5 ADJ (in) "Adjust Input. This is the input to the error amplifier. The ADJ pin reference voltage is 0.4V referenced to ground. The output voltage range is 0.4V to 3.6V and is typically set by connecting ADJ to a resistor divider from (See Datasheet)", 6 ~{SHDN} (in) "Shutdown Input, Active Low. This pin is used to put the LTC3025 into shutdown. The S\H\D\N\ pin current is typically less than 10nA. The S\H\D\N\ pin cannot be left floating and must be tied to a valid logic level (such as (See Datasheet)", 7 EP (power) "Ground and Heat Sink. Must be soldered to PCB ground plane or large pad for optimal thermal performance."

## LTC3025IDC-2#PBF
designator U?
500 mA Micropower VLDO Linear Regulator, 1.4 to 5.5 V Vin, 1.2 V Vout, 6-pin SON (DC6-6), -40 to 125 degC, Pb-Free; Manufacturer: Linear Technology; PartNumber: LTC3025IDC-2#PBF; Discrete Pass Element: no; Dropout Voltage(V): 0.085; Iout(mA): 500; Isupply(mA): 0.05; Noise(uV): 80; Number of Outputs: 1; Output Voltage: 1.2 V; Vin Max(V): 5.5; Vin Min(V): 1.4; DatasheetVersion: Rev. F; PackageVersion: Rev. B, 06/2010; PackageReference: DC6-6; PackageDescription: 6-Pin Plastic DFN, Body 2 x 2 mm, Pitch 0.5 mm; RoHS: TRUE; Shutdown Current(uA): 1; Mounting Technology: Surface Mount; Code_JEDEC: MO-229; ComponentLink1Description: Manufacturer URL; ComponentLink1URL: http://www.linear.com/; ComponentLink2Description: Datasheet; ComponentLink2URL: http://cds.linear.com/docs/en/datasheet/30251234ff.pdf; ComponentLink3Description: Package Specification; ComponentLink3URL: http://cds.linear.com/docs/en/packaging/DFN_6_05-08-1703.pdf
footprint LT-DC6-6_V (SON, 6-Leads, Body 2x2mm, Pitch 0.5mm, Thermal Pad 1.42x0.61mm)
pins: 1 BIAS (power) "BIAS Input Voltage. BIAS provides internal power for LTC3025-X circuitry. The BIAS pin should be locally bypassed to ground if the LTC3025-X is more than a few inches away from another source of bulk capacitance. In general, (See Datasheet)", 2 GND (power) "Ground. Connect to a ground plane.", 3 IN (power) "Input Supply Voltage. The output load current is supplied directly from IN. The IN pin should be locally bypassed to ground if the LTC3025-X is more than a few inches away from another source of bulk capacitance. In general, (See Datasheet)", 4 OUT (power) "Regulated Output Voltage. The OUT pin supplies power to the load. A minimum ceramic output capacitor of at least 1uF is required to ensure stability. Larger output capacitors may be required for applications with large (See Datasheet)", 5 SENSE (in) "Output Sense. The sense is the input to the resistor divider driving the error amplifier. Optimum regulation will be obtained at the point where SENSE is connected to OUT. The SENSE pin bias current is 10uA at the nominal (See Datasheet)", 6 ~{SHDN} (in) "Shutdown Input, Active Low. This pin is used to put the LTC3025-X into shutdown. The S\H\D\N\ pin current is typically less than 10nA. The S\H\D\N\ pin cannot be left floating and must be tied to a valid logic level (such as (See Datasheet)", 7 EP (power) "Ground and Heat Sink. Must be soldered to PCB ground plane or large pad for optimal thermal performance."

## LTC3025IDC-2#TRM
designator U?
500 mA Micropower VLDO Linear Regulator, 1.4 to 5.5 V Vin, 1.2 V Vout, 6-pin SON (DC6-6), -40 to 125 degC, Mini Tape and Reel; Manufacturer: Linear Technology; PartNumber: LTC3025IDC-2#TRM; Discrete Pass Element: no; Dropout Voltage(V): 0.085; Iout(mA): 500; Isupply(mA): 0.05; Noise(uV): 80; Number of Outputs: 1; Output Voltage: 1.2 V; Vin Max(V): 5.5; Vin Min(V): 1.4; DatasheetVersion: Rev. F; PackageVersion: Rev. B, 06/2010; PackageReference: DC6-6; PackageDescription: 6-Pin Plastic DFN, Body 2 x 2 mm, Pitch 0.5 mm; Packing: Mini Tape and Reel; RoHS: FALSE; Shutdown Current(uA): 1; Mounting Technology: Surface Mount; Code_JEDEC: MO-229; ComponentLink1Description: Manufacturer URL; ComponentLink1URL: http://www.linear.com/; ComponentLink2Description: Datasheet; ComponentLink2URL: http://cds.linear.com/docs/en/datasheet/30251234ff.pdf; ComponentLink3Description: Package Specification; ComponentLink3URL: http://cds.linear.com/docs/en/packaging/DFN_6_05-08-1703.pdf
footprint LT-DC6-6_V (SON, 6-Leads, Body 2x2mm, Pitch 0.5mm, Thermal Pad 1.42x0.61mm)
pins: 1 BIAS (power) "BIAS Input Voltage. BIAS provides internal power for LTC3025-X circuitry. The BIAS pin should be locally bypassed to ground if the LTC3025-X is more than a few inches away from another source of bulk capacitance. In general, (See Datasheet)", 2 GND (power) "Ground. Connect to a ground plane.", 3 IN (power) "Input Supply Voltage. The output load current is supplied directly from IN. The IN pin should be locally bypassed to ground if the LTC3025-X is more than a few inches away from another source of bulk capacitance. In general, (See Datasheet)", 4 OUT (power) "Regulated Output Voltage. The OUT pin supplies power to the load. A minimum ceramic output capacitor of at least 1uF is required to ensure stability. Larger output capacitors may be required for applications with large (See Datasheet)", 5 SENSE (in) "Output Sense. The sense is the input to the resistor divider driving the error amplifier. Optimum regulation will be obtained at the point where SENSE is connected to OUT. The SENSE pin bias current is 10uA at the nominal (See Datasheet)", 6 ~{SHDN} (in) "Shutdown Input, Active Low. This pin is used to put the LTC3025-X into shutdown. The S\H\D\N\ pin current is typically less than 10nA. The S\H\D\N\ pin cannot be left floating and must be tied to a valid logic level (such as (See Datasheet)", 7 EP (power) "Ground and Heat Sink. Must be soldered to PCB ground plane or large pad for optimal thermal performance."

## LTC3025IDC-2#TRMPBF
designator U?
500 mA Micropower VLDO Linear Regulator, 1.4 to 5.5 V Vin, 1.2 V Vout, 6-pin SON (DC6-6), -40 to 125 degC, Pb-Free, Mini Tape and Reel; Manufacturer: Linear Technology; PartNumber: LTC3025IDC-2#TRMPBF; Discrete Pass Element: no; Dropout Voltage(V): 0.085; Iout(mA): 500; Isupply(mA): 0.05; Noise(uV): 80; Number of Outputs: 1; Output Voltage: 1.2 V; Vin Max(V): 5.5; Vin Min(V): 1.4; DatasheetVersion: Rev. F; PackageVersion: Rev. B, 06/2010; PackageReference: DC6-6; PackageDescription: 6-Pin Plastic DFN, Body 2 x 2 mm, Pitch 0.5 mm; Supplier 1: Digi-Key; Supplier Part Number 1: LTC3025IDC-2#TRMPBF-ND; Packing: Mini Tape and Reel; RoHS: TRUE; Shutdown Current(uA): 1; Mounting Technology: Surface Mount; Code_JEDEC: MO-229; ComponentLink1Description: Manufacturer URL; ComponentLink1URL: http://www.linear.com/; ComponentLink2Description: Datasheet; ComponentLink2URL: http://cds.linear.com/docs/en/datasheet/30251234ff.pdf; ComponentLink3Description: Package Specification; ComponentLink3URL: http://cds.linear.com/docs/en/packaging/DFN_6_05-08-1703.pdf
footprint LT-DC6-6_V (SON, 6-Leads, Body 2x2mm, Pitch 0.5mm, Thermal Pad 1.42x0.61mm)
pins: 1 BIAS (power) "BIAS Input Voltage. BIAS provides internal power for LTC3025-X circuitry. The BIAS pin should be locally bypassed to ground if the LTC3025-X is more than a few inches away from another source of bulk capacitance. In general, (See Datasheet)", 2 GND (power) "Ground. Connect to a ground plane.", 3 IN (power) "Input Supply Voltage. The output load current is supplied directly from IN. The IN pin should be locally bypassed to ground if the LTC3025-X is more than a few inches away from another source of bulk capacitance. In general, (See Datasheet)", 4 OUT (power) "Regulated Output Voltage. The OUT pin supplies power to the load. A minimum ceramic output capacitor of at least 1uF is required to ensure stability. Larger output capacitors may be required for applications with large (See Datasheet)", 5 SENSE (in) "Output Sense. The sense is the input to the resistor divider driving the error amplifier. Optimum regulation will be obtained at the point where SENSE is connected to OUT. The SENSE pin bias current is 10uA at the nominal (See Datasheet)", 6 ~{SHDN} (in) "Shutdown Input, Active Low. This pin is used to put the LTC3025-X into shutdown. The S\H\D\N\ pin current is typically less than 10nA. The S\H\D\N\ pin cannot be left floating and must be tied to a valid logic level (such as (See Datasheet)", 7 EP (power) "Ground and Heat Sink. Must be soldered to PCB ground plane or large pad for optimal thermal performance."

## LTC3025IDC-2#TRPBF
designator U?
500 mA Micropower VLDO Linear Regulator, 1.4 to 5.5 V Vin, 1.2 V Vout, 6-pin SON (DC6-6), -40 to 125 degC, Pb-Free, Tape and Reel; Manufacturer: Linear Technology; PartNumber: LTC3025IDC-2#TRPBF; Discrete Pass Element: no; Dropout Voltage(V): 0.085; Iout(mA): 500; Isupply(mA): 0.05; Noise(uV): 80; Number of Outputs: 1; Output Voltage: 1.2 V; Vin Max(V): 5.5; Vin Min(V): 1.4; DatasheetVersion: Rev. F; PackageVersion: Rev. B, 06/2010; PackageReference: DC6-6; PackageDescription: 6-Pin Plastic DFN, Body 2 x 2 mm, Pitch 0.5 mm; Supplier 1: Digi-Key; Supplier Part Number 1: LTC3025IDC-2#TRPBF-ND; Supplier 2: Newark; Supplier Part Number 2: 19P9330; Packing: Tape and Reel; RoHS: TRUE; Shutdown Current(uA): 1; Mounting Technology: Surface Mount; Code_JEDEC: MO-229; ComponentLink1Description: Manufacturer URL; ComponentLink1URL: http://www.linear.com/; ComponentLink2Description: Datasheet; ComponentLink2URL: http://cds.linear.com/docs/en/datasheet/30251234ff.pdf; ComponentLink3Description: Package Specification; ComponentLink3URL: http://cds.linear.com/docs/en/packaging/DFN_6_05-08-1703.pdf
footprint LT-DC6-6_V (SON, 6-Leads, Body 2x2mm, Pitch 0.5mm, Thermal Pad 1.42x0.61mm)
pins: 1 BIAS (power) "BIAS Input Voltage. BIAS provides internal power for LTC3025-X circuitry. The BIAS pin should be locally bypassed to ground if the LTC3025-X is more than a few inches away from another source of bulk capacitance. In general, (See Datasheet)", 2 GND (power) "Ground. Connect to a ground plane.", 3 IN (power) "Input Supply Voltage. The output load current is supplied directly from IN. The IN pin should be locally bypassed to ground if the LTC3025-X is more than a few inches away from another source of bulk capacitance. In general, (See Datasheet)", 4 OUT (power) "Regulated Output Voltage. The OUT pin supplies power to the load. A minimum ceramic output capacitor of at least 1uF is required to ensure stability. Larger output capacitors may be required for applications with large (See Datasheet)", 5 SENSE (in) "Output Sense. The sense is the input to the resistor divider driving the error amplifier. Optimum regulation will be obtained at the point where SENSE is connected to OUT. The SENSE pin bias current is 10uA at the nominal (See Datasheet)", 6 ~{SHDN} (in) "Shutdown Input, Active Low. This pin is used to put the LTC3025-X into shutdown. The S\H\D\N\ pin current is typically less than 10nA. The S\H\D\N\ pin cannot be left floating and must be tied to a valid logic level (such as (See Datasheet)", 7 EP (power) "Ground and Heat Sink. Must be soldered to PCB ground plane or large pad for optimal thermal performance."